# Altium integrated library 1043P.IntLib: 1 symbol
Pins are listed as number, name and electrical type; pins without a type are passive.

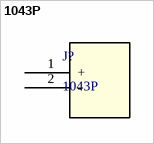
[diagram p0: symbol 1043P]

## 1043P
designator J?
No Description Available; Mfr_Name: Keystone Electronics; Copyright: Copyright (C) 2022 Ultra Librarian. All rights reserved.; Manufacturer_Part_Number: 1043P; Digi-Key_Part_Number_1: 36-1043P-ND; RefDes: RefDes; Type: DEV
footprint CONN2_1043P_KEY
pins: 1 +, 2 -